# Altium footprint library SIP750W46P254L1400H1010Q3.PcbLib: 1 footprints
Each footprint in its own frame and in the unit in brackets; x right, y up, seen from the top. Pads: shape width x height; smd on the part's side, far side on the other; paste and mask are expansions set on the pad; w line width, h text height; cw(c..) or ccw(c..) is an arc to the next point about the centre after c.
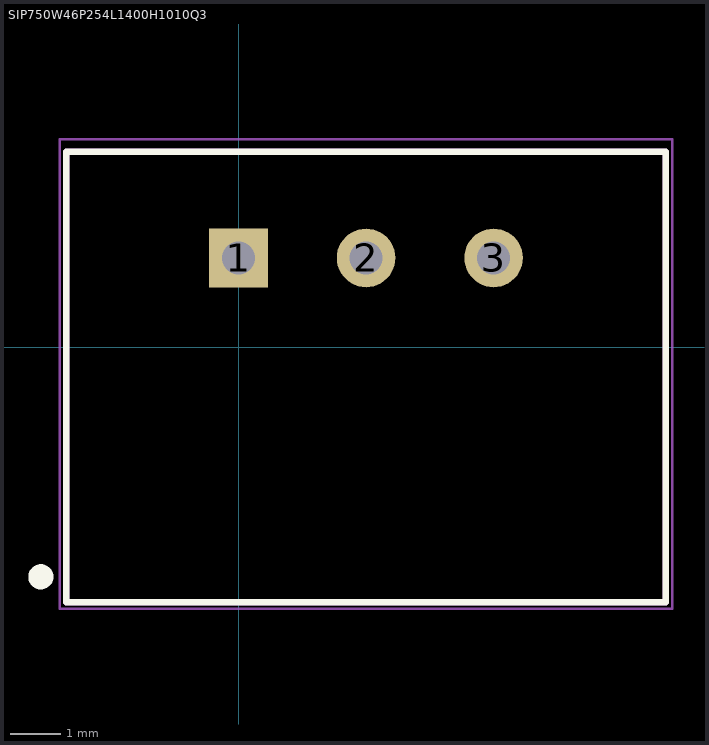
[diagram p0: the footprint, top view; thin cyan lines are the x and y axes]

## SIP750W46P254L1400H1010Q3 [mil]
pads (3):
  rect 45.98x45.98 / inner round 45.98 / far side rect 45.98x45.98 hole 25.98: 1(0,70)
  round 45.98 hole 25.98: 2(100,70) 3(200,70)
Top Overlay:
  circle w11.81: c-155,-180 r3.94
  lines w5: -135,-200 335,-200 335,153.15 -135,153.15 -135,-200
Mechanical 13:
  lines w5: -135,-200 335,-200 335,153.15 -135,153.15 -135,-200
Mechanical 15:
  lines w1.97: -140,-205 340,-205 340,162.99 -140,162.99 -140,-205
3D body "amsri1.step": height 688.98, standoff -161.42, extent -126.38,-200 326.38,154.33